# EAGLE library part 574781-4 (library AMP-5745781-4)
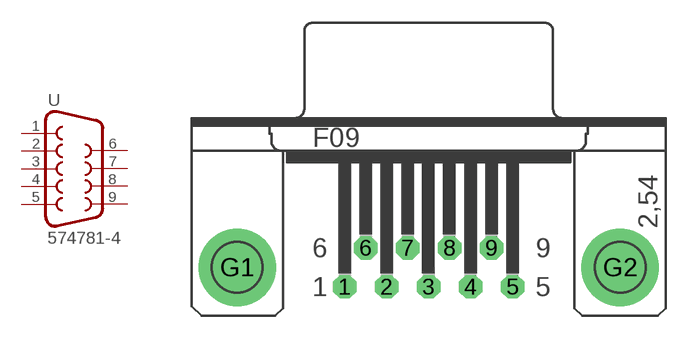
[diagram p74: symbol with the pads of F09HP; footprint F09HP]

Designator prefix -

## 574781-4  [F09HP]
1  1  pas
2  2  pas
3  3  pas
4  4  pas
5  5  pas
6  6  pas
7  7  pas
8  8  pas
9  9  pas

## Footprint F09HP (pad centres in mm)
SUB-D
drill 1.016 octagon: 1 -5.486,0.66; 2 -2.743,0.66; 3 0,0.66; 4 2.743,0.66; 5 5.486,0.66; 6 -4.115,3.2; 7 -1.372,3.2; 8 1.372,3.2; 9 4.115,3.2
drill 3.302 pad 5.08 round: G1 -12.522,1.93; G2 12.522,1.93